# Altium schematic symbol library DMN5L06TK.SchLib: 1 symbol
Pins are listed as number, name and electrical type; pins without a type are passive.

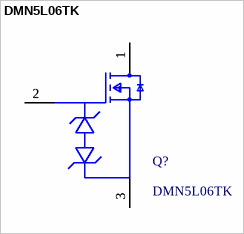
[diagram p0: symbol DMN5L06TK]

## DMN5L06TK
designator Q?
footprint DMN5L06TK
pins: 1 D, 1 D, 2 G, 2 G, 3 S, 3 S